# Altium schematic symbol library PassiveComponents.SchLib: 89 symbols
Pins are listed as number, name and electrical type; pins without a type are passive.

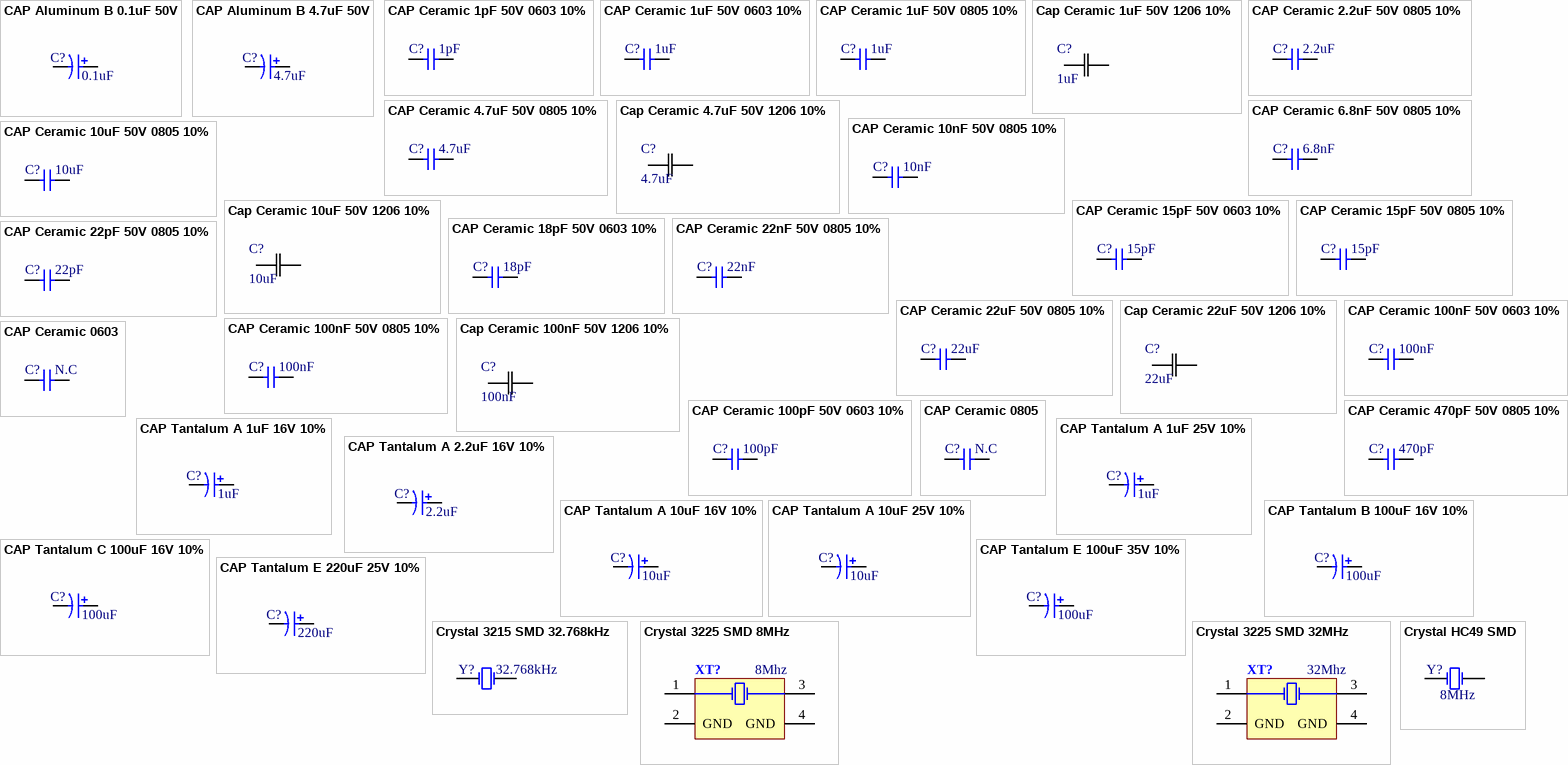
[diagram p0: symbols CAP Aluminum B 0.1uF 50V to Crystal HC49 SMD]

## CAP Aluminum B 0.1uF 50V
designator C?, comment 0.1uF
Aluminum Electrolytic Capacitor, Low Impedance,  0.1uF, 50 V, + / - 20%, -55 to 105 degC, Chip Type, 4 x 5.8 mm D x L
footprint CAP ALUMINUM SMD B (SMT Aluminum Electrolytic Capacitors, Dimensions 4x5.8(DxL))
pins: 1, 2

## CAP Aluminum B 4.7uF 50V
designator C?, comment 4.7uF
Aluminum Electrolytic Capacitor, Low Impedance,  4.7uF, 50 V, + / - 20%, -55 to 105 degC, Chip Type, 4 x 5.8 mm D x L
footprint CAP ALUMINUM SMD B (SMT Aluminum Electrolytic Capacitors, Dimensions 4x5.8(DxL))
pins: 1, 2

## CAP Ceramic 1pF 50V 0603 10%
designator C?, comment 1pF
Capacitor Ceramic 1pF 50V 0603 ±10%; Case-Metric: 2012; Max-Thickness: #NAN; Case-EIA: 0603; Rated-Voltage: 50V; Value: 1pF; Tolerance: ±10%; Technology: SMT; Supplier-ICDAYROI: https://icdayroi.com/tu-dien-100nf-50v-0805; Supplier-TME: http://tme.vn/Product.aspx?id=424#page=pro_info
footprint CAP CERAMIC SMD 0603-L (Chip Capacitor, 2-Leads, Body 1.6x0.8mm, IPC High Density)
pins: 1, 2

## CAP Ceramic 1uF 50V 0603 10%
designator C?, comment 1uF
Capacitor Ceramic 1uF 50V 0603 ±10%; Case-Metric: 2012; Max-Thickness: #NAN; Case-EIA: 0603; Rated-Voltage: 50V; Value: 1uF; Tolerance: ±10%; Technology: SMT; Supplier-ICDAYROI: https://icdayroi.com/tu-dien-100nf-50v-0805; Supplier-TME: http://tme.vn/Product.aspx?id=424#page=pro_info
footprint CAP CERAMIC SMD 0603-L (Chip Capacitor, 2-Leads, Body 1.6x0.8mm, IPC High Density)
pins: 1, 2

## CAP Ceramic 1uF 50V 0805 10%
designator C?, comment 1uF
Capacitor Ceramic 1uF 50V 0805 ±10%; Case-Metric: 2012; Max-Thickness: #NAN; Case-EIA: 0805; Rated-Voltage: 50V; Value: 1uF; Tolerance: ±10%; Technology: SMT; Supplier-ICDAYROI: https://icdayroi.com/tu-dien-100nf-50v-0805; Supplier-TME: http://tme.vn/Product.aspx?id=424#page=pro_info
footprint CAP CERAMIC SMD 0805
pins: 1, 2

## Cap Ceramic 1uF 50V 1206 10%
designator C?, comment 1uF
No Description Available; Mfr_Name: Yageo; Manufacturer_Part_Number: CC1206ZKY5V7BB226; Type: DEV; Copyright: Copyright (C) 2022 Ultra Librarian. All rights reserved.; RefDes: RefDes
footprint CAP_CC1206_YAG
pins: 1, 2

## CAP Ceramic 2.2uF 50V 0805 10%
designator C?, comment 2.2uF
Capacitor Ceramic 2.2uF 50V 0805 ±10%; Case-Metric: 2012; Max-Thickness: #NAN; Case-EIA: 0805; Rated-Voltage: 50V; Value: 2.2uF; Tolerance: ±10%; Technology: SMT; Supplier-ICDAYROI: https://icdayroi.com/tu-dien-100nf-50v-0805; Supplier-TME: http://tme.vn/Product.aspx?id=424#page=pro_info
footprint CAP CERAMIC SMD 0805
pins: 1, 2

## CAP Ceramic 4.7uF 50V 0805 10%
designator C?, comment 4.7uF
Capacitor Ceramic 4.7uF 50V 0805 ±10%; Case-Metric: 2012; Max-Thickness: #NAN; Value: 100nF; Case-EIA: 0805; Rated-Voltage: 50V; Tolerance: ±10%; Technology: SMT; Supplier-ICDAYROI: https://icdayroi.com/tu-dien-100nf-50v-0805; Supplier-TME: http://tme.vn/Product.aspx?id=424#page=pro_info
footprint CAP CERAMIC SMD 0805
pins: 1, 2

## Cap Ceramic 4.7uF 50V 1206 10%
designator C?, comment 4.7uF
No Description Available; Mfr_Name: Yageo; Manufacturer_Part_Number: CC1206ZKY5V7BB226; Type: DEV; Copyright: Copyright (C) 2022 Ultra Librarian. All rights reserved.; RefDes: RefDes
footprint CAP_CC1206_YAG
pins: 1, 2

## CAP Ceramic 6.8nF 50V 0805 10%
designator C?, comment 6.8nF
Capacitor Ceramic 6.8nF 50V 0805 ±10%; Case-Metric: 2012; Max-Thickness: #NAN; Case-EIA: 0805; Rated-Voltage: 50V; Value: 6.8nF; Tolerance: ±10%; Technology: SMT; Supplier-ICDAYROI: https://icdayroi.com/tu-dien-100nf-50v-0805; Supplier-TME: http://tme.vn/Product.aspx?id=424#page=pro_info
footprint CAP CERAMIC SMD 0805
pins: 1, 2

## CAP Ceramic 10nF 50V 0805 10%
designator C?, comment 10nF
Capacitor Ceramic 10nF 50V 0805 ±10%; Case-Metric: 2012; Max-Thickness: #NAN; Case-EIA: 0805; Rated-Voltage: 50V; Value: 10nF; Tolerance: ±10%; Technology: SMT; Supplier-ICDAYROI: https://icdayroi.com/tu-dien-100nf-50v-0805; Supplier-TME: http://tme.vn/Product.aspx?id=424#page=pro_info
footprint CAP CERAMIC SMD 0805
pins: 1, 2

## CAP Ceramic 10uF 50V 0805 10%
designator C?, comment 10uF
Capacitor Ceramic 10uF 50V 0805 ±10%; Case-Metric: 2012; Max-Thickness: #NAN; Case-EIA: 0805; Rated-Voltage: 50V; Value: 10uF; Tolerance: ±10%; Technology: SMT; Supplier-ICDAYROI: https://icdayroi.com/tu-dien-100nf-50v-0805; Supplier-TME: http://tme.vn/Product.aspx?id=424#page=pro_info
footprint CAP CERAMIC SMD 0805
pins: 1, 2

## Cap Ceramic 10uF 50V 1206 10%
designator C?, comment 10uF
No Description Available; Mfr_Name: Yageo; Manufacturer_Part_Number: CC1206ZKY5V7BB226; Type: DEV; Copyright: Copyright (C) 2022 Ultra Librarian. All rights reserved.; RefDes: RefDes
footprint CAP_CC1206_YAG
pins: 1, 2

## CAP Ceramic 15pF 50V 0603 10%
designator C?, comment 15pF
Capacitor Ceramic 15pF 50V 0603 ±10%; Case-Metric: 2012; Max-Thickness: #NAN; Case-EIA: 0603; Rated-Voltage: 50V; Value: 15pF; Tolerance: ±10%; Technology: SMT; Supplier-ICDAYROI: https://icdayroi.com/tu-dien-100nf-50v-0805; Supplier-TME: http://tme.vn/Product.aspx?id=424#page=pro_info
footprint CAP CERAMIC SMD 0603-L (Chip Capacitor, 2-Leads, Body 1.6x0.8mm, IPC High Density)
pins: 1, 2

## CAP Ceramic 15pF 50V 0805 10%
designator C?, comment 15pF
Capacitor Ceramic 15pF 50V 0805 ±10%; Case-Metric: 2012; Max-Thickness: #NAN; Value: 100nF; Case-EIA: 0805; Rated-Voltage: 50V; Tolerance: ±10%; Technology: SMT; Supplier-ICDAYROI: https://icdayroi.com/tu-dien-100nf-50v-0805; Supplier-TME: http://tme.vn/Product.aspx?id=424#page=pro_info
footprint CAP CERAMIC SMD 0805
pins: 1, 2

## CAP Ceramic 18pF 50V 0603 10%
designator C?, comment 18pF
Capacitor Ceramic 18pF 50V 0603 ±10%; Case-Metric: 2012; Max-Thickness: #NAN; Value: 100pF; Case-EIA: 0603; Rated-Voltage: 50V; Tolerance: ±10%; Technology: SMT; Supplier-ICDAYROI: https://icdayroi.com/tu-dien-100nf-50v-0805; Supplier-TME: http://tme.vn/Product.aspx?id=424#page=pro_info
footprint CAP CERAMIC SMD 0603-L (Chip Capacitor, 2-Leads, Body 1.6x0.8mm, IPC High Density)
pins: 1, 2

## CAP Ceramic 22nF 50V 0805 10%
designator C?, comment 22nF
Capacitor Ceramic 22nF 50V 0805 ±10%; Case-Metric: 2012; Max-Thickness: #NAN; Case-EIA: 0805; Rated-Voltage: 50V; Value: 22nF; Tolerance: ±10%; Technology: SMT; Supplier-ICDAYROI: https://icdayroi.com/tu-dien-100nf-50v-0805; Supplier-TME: http://tme.vn/Product.aspx?id=424#page=pro_info
footprint CAP CERAMIC SMD 0805
pins: 1, 2

## CAP Ceramic 22pF 50V 0805 10%
designator C?, comment 22pF
Capacitor Ceramic 22pF 50V 0805 ±10%; Case-Metric: 2012; Max-Thickness: #NAN; Case-EIA: 0805; Rated-Voltage: 50V; Value: 22pF; Tolerance: ±10%; Technology: SMT; Supplier-ICDAYROI: https://icdayroi.com/tu-dien-100nf-50v-0805; Supplier-TME: http://tme.vn/Product.aspx?id=424#page=pro_info
footprint CAP CERAMIC SMD 0805
pins: 1, 2

## CAP Ceramic 22uF 50V 0805 10%
designator C?, comment 22uF
Capacitor Ceramic 10uF 50V 0805 ±10%; Case-Metric: 2012; Max-Thickness: #NAN; Case-EIA: 0805; Rated-Voltage: 50V; Value: 10uF; Tolerance: ±10%; Technology: SMT; Supplier-ICDAYROI: https://icdayroi.com/tu-dien-100nf-50v-0805; Supplier-TME: http://tme.vn/Product.aspx?id=424#page=pro_info
footprint CAP CERAMIC SMD 0805
pins: 1, 2

## Cap Ceramic 22uF 50V 1206 10%
designator C?, comment 22uF
No Description Available; Mfr_Name: Yageo; Manufacturer_Part_Number: CC1206ZKY5V7BB226; Type: DEV; Copyright: Copyright (C) 2022 Ultra Librarian. All rights reserved.; RefDes: RefDes
footprint CAP_CC1206_YAG
pins: 1, 2

## CAP Ceramic 100nF 50V 0603 10%
designator C?, comment 100nF
Capacitor Ceramic 100nF 50V 0603 ±10%; Case-Metric: 2012; Max-Thickness: #NAN; Case-EIA: 0603; Rated-Voltage: 50V; Value: 100nF; Tolerance: ±10%; Technology: SMT; Supplier-ICDAYROI: https://icdayroi.com/tu-dien-100nf-50v-0805; Supplier-TME: http://tme.vn/Product.aspx?id=424#page=pro_info
footprint CAP CERAMIC SMD 0603-L (Chip Capacitor, 2-Leads, Body 1.6x0.8mm, IPC High Density)
pins: 1, 2

## CAP Ceramic 100nF 50V 0805 10%
designator C?, comment 100nF
Capacitor Ceramic 100nF 50V 0805 ±10%; Case-Metric: 2012; Max-Thickness: #NAN; Case-EIA: 0805; Rated-Voltage: 50V; Value: 100nF; Tolerance: ±10%; Technology: SMT; Supplier-ICDAYROI: https://icdayroi.com/tu-dien-100nf-50v-0805; Supplier-TME: http://tme.vn/Product.aspx?id=424#page=pro_info
footprint CAP CERAMIC SMD 0805
pins: 1, 2

## Cap Ceramic 100nF 50V 1206 10%
designator C?, comment 100nF
No Description Available; Mfr_Name: Yageo; Manufacturer_Part_Number: CC1206ZKY5V7BB226; Type: DEV; Copyright: Copyright (C) 2022 Ultra Librarian. All rights reserved.; RefDes: RefDes
footprint CAP_CC1206_YAG
pins: 1, 2

## CAP Ceramic 100pF 50V 0603 10%
designator C?, comment 100pF
Capacitor Ceramic 100pF 50V 0603 ±10%; Case-Metric: 2012; Max-Thickness: #NAN; Case-EIA: 0603; Rated-Voltage: 50V; Value: 100pF; Tolerance: ±10%; Technology: SMT; Supplier-ICDAYROI: https://icdayroi.com/tu-dien-100nf-50v-0805; Supplier-TME: http://tme.vn/Product.aspx?id=424#page=pro_info
footprint CAP CERAMIC SMD 0603-L (Chip Capacitor, 2-Leads, Body 1.6x0.8mm, IPC High Density)
pins: 1, 2

## CAP Ceramic 470pF 50V 0805 10%
designator C?, comment 470pF
Capacitor Ceramic 470pF 50V 0805 10%; Case-Metric: 2012; Max-Thickness: #NAN; Value: 100nF; Case-EIA: 0805; Rated-Voltage: 50V; Tolerance: ±10%; Technology: SMT; Supplier-ICDAYROI: https://icdayroi.com/tu-dien-100nf-50v-0805; Supplier-TME: http://tme.vn/Product.aspx?id=424#page=pro_info
footprint CAP CERAMIC SMD 0805
pins: 1, 2

## CAP Ceramic 0603
designator C?, comment N.C
Capacitor Ceramic 100nF 50V 0603 ±10%; Case-Metric: 2012; Max-Thickness: #NAN; Case-EIA: 0603; Rated-Voltage: 50V; Value: 100nF; Tolerance: ±10%; Technology: SMT; Supplier-ICDAYROI: https://icdayroi.com/tu-dien-100nf-50v-0805; Supplier-TME: http://tme.vn/Product.aspx?id=424#page=pro_info
footprint CAP CERAMIC SMD 0603-L (Chip Capacitor, 2-Leads, Body 1.6x0.8mm, IPC High Density)
pins: 1, 2

## CAP Ceramic 0805
designator C?, comment N.C
Capacitor Ceramic 100nF 50V 0805 ±10%; Case-Metric: 2012; Max-Thickness: #NAN; Case-EIA: 0805; Rated-Voltage: 50V; Value: 100nF; Tolerance: ±10%; Technology: SMT; Supplier-ICDAYROI: https://icdayroi.com/tu-dien-100nf-50v-0805; Supplier-TME: http://tme.vn/Product.aspx?id=424#page=pro_info
footprint CAP CERAMIC SMD 0805
pins: 1, 2

## CAP Tantalum A 1uF 16V 10%
designator C?, comment 1uF
Standard Tantalum, 1 uF ,  ±10%, 16V, -55 to 125 degC, 2-Pin SMD; Supplier-TME: http://tme.vn/Product.aspx?id=1423#page=pro_info
footprint CAP TANTALUM SMD A
pins: 1, 2

## CAP Tantalum A 1uF 25V 10%
designator C?, comment 1uF
Standard Tantalum, 1 uF ,  ±10%, 25V, -55 to 125 degC, 2-Pin SMD; Supplier-ICDAYROI: *https://icdayroi.com/tu-tantalum-1uf-25v-smd3216
footprint CAP TANTALUM SMD A
pins: 1, 2

## CAP Tantalum A 2.2uF 16V 10%
designator C?, comment 2.2uF
Standard Tantalum, 2.2uF ,  ±10%, 16V, -55 to 125 degC, 2-Pin SMD; Supllier-ICDAYROi: https://icdayroi.com/tu-tantalum-2-2uf-16v-smd3216
footprint CAP TANTALUM SMD A
pins: 1, 2

## CAP Tantalum A 10uF 16V 10%
designator C?, comment 10uF
Standard Tantalum, 10uF ,  ±10%, 16V, -55 to 125 degC, 2-Pin SMD; Supllier-ICDAYROi: https://icdayroi.com/tu-tantalum-10uf-16v-size-1206-10; Supplier-TME: *http://tme.vn/Product.aspx?id=305#page=pro_info
footprint CAP TANTALUM SMD A
pins: 1, 2

## CAP Tantalum A 10uF 25V 10%
designator C?, comment 10uF
Standard Tantalum, 10 uF ,  ±10%, 25V, -55 to 125 degC, 2-Pin SMD; Supllier-ICDAYROi: https://icdayroi.com/tu-tantalum-10uf-25v-smd3216-1206
footprint CAP TANTALUM SMD A
pins: 1, 2

## CAP Tantalum B 100uF 16V 10%
designator C?, comment 100uF
Standard Tantalum, 100 uF ,  ±10%, 16V, -55 to 125 degC, 2-Pin SMD; Supplier-ICDAYROI: https://icdayroi.com/tu-tantalum-100uf-16v-smd3528
footprint CAP TANTALUM SMD B
pins: 1, 2

## CAP Tantalum C 100uF 16V 10%
designator C?, comment 100uF
Standard Tantalum, 100uF ,  ±10%, 16V, -55 to 125 degC, 2-Pin SMD; Supllier-ICDAYROi: https://icdayroi.com/tu-tantalum-100uf-16v-smd6032
footprint CAP TANTALUM SMD C
pins: 1, 2

## CAP Tantalum E 100uF 35V 10%
designator C?, comment 100uF
Standard Tantalum, 100uF ,  ±10%, 35V, -55 to 125 degC, 2-Pin SMD; Supllier-ICDAYROi: https://icdayroi.com/tu-tantalum-100uf-35v-smd7343
footprint CAP TANTALUM SMD E
pins: 1, 2

## CAP Tantalum E 220uF 25V 10%
designator C?, comment 220uF
Standard Tantalum, 220uF ,  ±10%, 25V, -55 to 125 degC, 2-Pin SMD; Supllier-ICDAYROi: https://icdayroi.com/tu-tantalum-220uf-25v-smd7343
footprint CAP TANTALUM SMD E
pins: 1, 2

## Crystal 3215 SMD 32.768kHz
designator Y?, comment 32.768kHz
footprint CRYSTAL 3215 SMD (XTAL SMD 3.2 x 1.5 mm)
pins: 1 OSC1, 2 OSC2

## Crystal 3225 SMD 8MHz
designator XT?, comment 8Mhz
SMD Seam Sealing Crystal, 8 MHz, +/- 30 ppm, 18 pF, -20 to 70 degC, 4-Pin SMD, RoHS, Tape and Reel; Manufacturer: TXC; Other Names: 7M25000MAAJT / 887-1132-2; Frequency Tolerance: ±30ppm; Catalog Drawings: 7MSeriesTop7MSeriesBottom7MSeriesSide7MSeriesCircuit; Online Catalog: 7MSeries; Operating Mode: Fundamental; ESR (Equivalent Series Resistance): 60Ohm; EDA / CAD Models: DownloadfromAcceleratedDesigns; Frequency: 25MHz; Load Capacitance: 18pF; Operating Temperature: -20°C~70°C; Size / Dimension: 0.126"Lx0.098"W(3.20mmx2.50mm); Frequency Stability: ±30ppm; Datasheet URL: http://www.txccrystal.com/images/pdf/7m.pdf; Category: CrystalsandOscillators; Series: 7M; Package Description: 4-Pin Surface Mount Device, Body 3.2 x 2.5 mm; Packaging: Tape&Reel(TR); Mounting Technology: SurfaceMount; Standard Package: 3,000; Family: Crystals; Package / Case: 4-SMD,NoLead(DFN,LCC); Height: 0.031"(0.80mm); Type: MHzCrystal; Manufacturer URL: http://www.txccorp.com/; Datasheet Version: 01/2014; Mounting Type: SurfaceMount; Package Reference: 7M-4
footprint CRYSTAL 3225 SMD 4P (SMD, 4-Leads, Body 3.2x2.5mm)
pins: 1 X1, 2 GND (power), 3 X2, 4 GND (power)

## Crystal 3225 SMD 32MHz
designator XT?, comment 32Mhz
SMD Seam Sealing Crystal, 32 MHz, +/- 30 ppm, 18 pF, -20 to 70 degC, 4-Pin SMD, RoHS, Tape and Reel; Manufacturer: TXC; Other Names: 7M25000MAAJT / 887-1132-2; Frequency Tolerance: ±30ppm; Catalog Drawings: 7MSeriesTop7MSeriesBottom7MSeriesSide7MSeriesCircuit; Online Catalog: 7MSeries; Operating Mode: Fundamental; ESR (Equivalent Series Resistance): 60Ohm; EDA / CAD Models: DownloadfromAcceleratedDesigns; Load Capacitance: 18pF; Operating Temperature: -20°C~70°C; Size / Dimension: 0.126"Lx0.098"W(3.20mmx2.50mm); Frequency Stability: ±30ppm; Datasheet URL: http://www.txccrystal.com/images/pdf/7m.pdf; Category: CrystalsandOscillators; Series: 7M; Package Description: 4-Pin Surface Mount Device, Body 3.2 x 2.5 mm; Packaging: Tape&Reel(TR); Mounting Technology: SurfaceMount; Frequency: 32MHz; Standard Package: 3,000; Family: Crystals; Package / Case: 4-SMD,NoLead(DFN,LCC); Height: 0.031"(0.80mm); Type: MHzCrystal; Manufacturer URL: http://www.txccorp.com/; Datasheet Version: 01/2014; Mounting Type: SurfaceMount; Package Reference: 7M-4
footprint CRYSTAL 3225 SMD 4P (SMD, 4-Leads, Body 3.2x2.5mm)
pins: 1 X1, 2 GND (power), 3 X2, 4 GND (power)

## Crystal HC49 SMD
designator Y?, comment 8MHz
footprint CRYSTAL HC49 SMD
pins: 1 OSC1, 2 OSC2

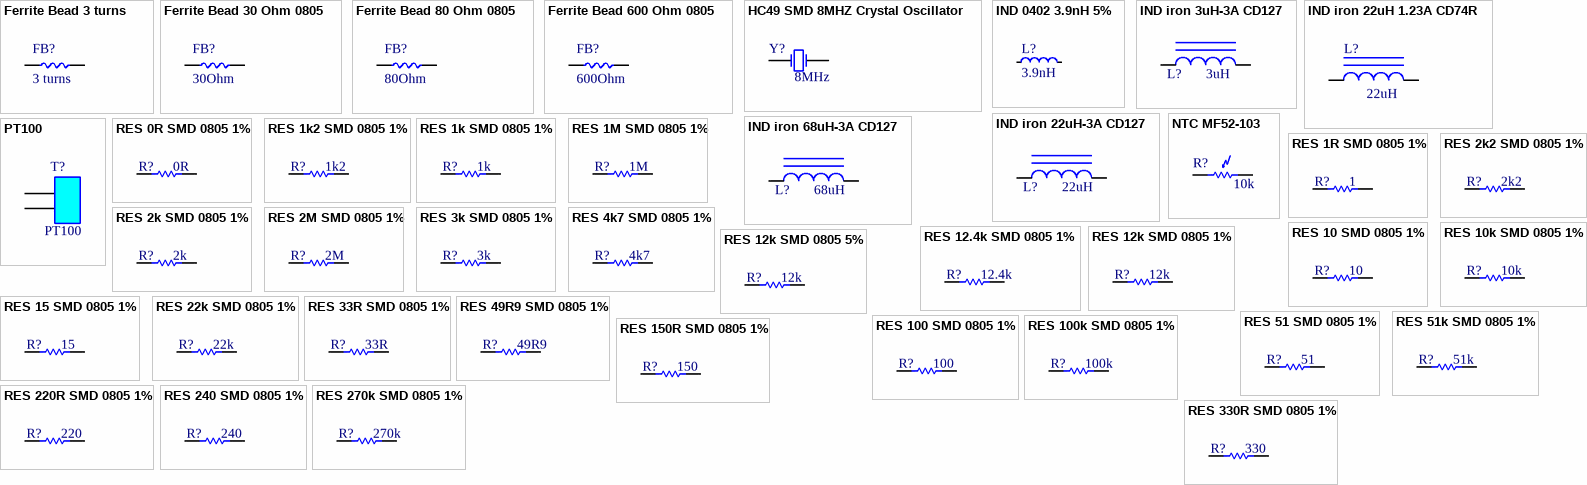
[diagram p1: symbols Ferrite Bead 3 turns to RES 330R SMD 0805 1%]

## Ferrite Bead 3 turns
designator FB?, comment 3 turns
footprint Ferrite bead 6x10
pins: 1, 2

## Ferrite Bead 30 Ohm 0805
designator FB?, comment 30Ohm
30Ohm at 100MHz
footprint FERIT BEAD 0805
pins: 1, 2

## Ferrite Bead 80 Ohm 0805
designator FB?, comment 80Ohm
80Ohm at 100MHz
footprint FERIT BEAD 0805
pins: 1, 2

## Ferrite Bead 600 Ohm 0805
designator FB?, comment 600Ohm
600Ohm at 100MHz
footprint FERIT BEAD 0805
pins: 1, 2

## HC49 SMD 8MHZ Crystal Oscillator
designator Y?, comment 8MHz
Crystal Oscillator
footprint HC49-SMD
pins: 1 OSC1, 2 OSC2

## IND 0402 3.9nH 5%
designator L?, comment 3.9nH
High frequency chip inductor ±5%; Part Number: L0402-3n9; Manufacturer: Murata; Manufacturer Part Number: LQP15MN3N9B02D; Artikkelnr Noca: 33029151; Artikkelnr Simpro: N.A.; Datasheet: http://search.murata.co.jp/Ceramy/image/img/PDF/ENG/L0075S0084LQP15M.pdf; LatestRevisionDate: 2012-09-19; Pin Count: 2; Publisher: Nordic Semiconductor; Published: 2009-05-08; Value: 3.9nH; Note: High frequency chip inductor ±5%; Supplier: Digi-Key; Supplier part number: 490-1131-1-ND; 2nd source Supplier: *; 2nd source part number: *; Footprint Doc: 0402
footprint IND CHIP SMD 0402-L (Chip Inductor, 2-Leads, Body 1.0x0.5mm, IPC High Density)
pins: 1, 2

## IND iron 3uH-3A CD127
designator L?, comment 3uH
Magnetic-Core Inductor; Value: 3uH
footprint INDUCTOR SMD 1280 12x12x8mm (Inductor 1280 Body 12x12x8mm, Pad 5.4x2.9mm)
pins: 1, 2

## IND iron 22uH 1.23A CD74R
designator L?, comment 22uH
Magnetic-Core Inductor; Value: 22uH
footprint INDUCTOR SMD 7342 7.3X7.3X4.2mm (Inductor 7342 Body 7.3x7.3X4.2mm, Pad 2.8x2.1mm)
pins: 1, 2

## IND iron 22uH-3A CD127
designator L?, comment 22uH
Magnetic-Core Inductor; Value: 22uH
footprint INDUCTOR SMD 1280 12x12x8mm (Inductor 1280 Body 12x12x8mm, Pad 5.4x2.9mm)
pins: 1, 2

## IND iron 68uH-3A CD127
designator L?, comment 68uH
Magnetic-Core Inductor; Value: 68uH
footprint INDUCTOR SMD 1280 12x12x8mm (Inductor 1280 Body 12x12x8mm, Pad 5.4x2.9mm)
pins: 1, 2

## NTC MF52-103
designator R?, comment 10k
footprint NTC-10k
pins: 1, 2

## PT100
designator T?
footprint NB-PTCO-005 (PT100)
pins: 1, 2

## RES 0R SMD 0805 1%
designator R?, comment 0R
Resistor 0R 1/8W 1% 0805 (2012 Metric) SMD; Case-EIA: 0805; Case-Metric: 2012; Power: 1/8W (0.125W); Value: 0R; Tolerance: ±1%; Supplier-ICDAYROI: https://icdayroi.com/dien-tro-1k-0805-1-goi-50-con; Technology: SMT; Supplier-TME: http://tme.vn/Product.aspx?id=695#page=pro_info
footprint RES SMD 0805
pins: 1, 2

## RES 1k2 SMD 0805 1%
designator R?, comment 1k2
Resistor 1k2 1/8W 1% 0805 (2012 Metric) SMD; Case-EIA: 0805; Case-Metric: 2012; Value: 1k; Power: 1/8W (0.125W); Tolerance: ±1%; Supplier-ICDAYROI: https://icdayroi.com/dien-tro-1k-0805-1-goi-50-con; Technology: SMT; Supplier-TME: http://tme.vn/Product.aspx?id=695#page=pro_info
footprint RES SMD 0805
pins: 1, 2

## RES 1k SMD 0805 1%
designator R?, comment 1k
Resistor 1k 1/8W 1% 0805 (2012 Metric) SMD; Case-EIA: 0805; Case-Metric: 2012; Power: 1/8W (0.125W); Value: 1k; Tolerance: ±1%; Supplier-ICDAYROI: https://icdayroi.com/dien-tro-1k-0805-1-goi-50-con; Technology: SMT; Supplier-TME: http://tme.vn/Product.aspx?id=695#page=pro_info
footprint RES SMD 0805
pins: 1, 2

## RES 1M SMD 0805 1%
designator R?, comment 1M
Resistor 1M 1/8W 1% 0805 (2012 Metric) SMD; Case-EIA: 0805; Case-Metric: 2012; Value: 1k; Power: 1/8W (0.125W); Tolerance: ±1%; Supplier-ICDAYROI: https://icdayroi.com/dien-tro-1k-0805-1-goi-50-con; Technology: SMT; Supplier-TME: http://tme.vn/Product.aspx?id=695#page=pro_info
footprint RES SMD 0805
pins: 1, 2

## RES 1R SMD 0805 1%
designator R?, comment 1
Resistor 1R 1/8W 1% 0805 (2012 Metric) SMD; Case-EIA: 0805; Case-Metric: 2012; Power: 1/8W (0.125W); Value: 1R; Tolerance: ±1%; Supplier-ICDAYROI: https://icdayroi.com/dien-tro-1k-0805-1-goi-50-con; Technology: SMT; Supplier-TME: http://tme.vn/Product.aspx?id=695#page=pro_info
footprint RES SMD 0805
pins: 1, 2

## RES 2k2 SMD 0805 1%
designator R?, comment 2k2
Resistor 2k2 1/8W 1% 0805 (2012 Metric) SMD; Case-EIA: 0805; Case-Metric: 2012; Power: 1/8W (0.125W); Value: 2k2; Tolerance: ±1%; Supplier-ICDAYROI: https://icdayroi.com/dien-tro-10k-0805-1-goi-50-con; Technology: SMT
footprint RES SMD 0805
pins: 1, 2

## RES 2k SMD 0805 1%
designator R?, comment 2k
Resistor 2k 1/8W 1% 0805 (2012 Metric) SMD; Case-EIA: 0805; Case-Metric: 2012; Power: 1/8W (0.125W); Value: 2k; Tolerance: ±1%; Supplier-ICDAYROI: https://icdayroi.com/dien-tro-10k-0805-1-goi-50-con; Technology: SMT
footprint RES SMD 0805
pins: 1, 2

## RES 2M SMD 0805 1%
designator R?, comment 2M
Resistor 2M 1/8W 1% 0805 (2012 Metric) SMD; Case-EIA: 0805; Case-Metric: 2012; Power: 1/8W (0.125W); Value: 2M; Tolerance: ±1%; Supplier-ICDAYROI: https://icdayroi.com/dien-tro-10k-0805-1-goi-50-con; Technology: SMT
footprint RES SMD 0805
pins: 1, 2

## RES 3k SMD 0805 1%
designator R?, comment 3k
Resistor 3k 1/8W 1% 0805 (2012 Metric) SMD; Case-EIA: 0805; Case-Metric: 2012; Value: 1k; Power: 1/8W (0.125W); Tolerance: ±1%; Supplier-ICDAYROI: https://icdayroi.com/dien-tro-10k-0805-1-goi-50-con; Technology: SMT
footprint RES SMD 0805
pins: 1, 2

## RES 4k7 SMD 0805 1%
designator R?, comment 4k7
Resistor 4k7 1/8W 1% 0805 (2012 Metric) SMD; Case-EIA: 0805; Case-Metric: 2012; Power: 1/8W (0.125W); Value: 4k7; Tolerance: ±1%; Supplier-ICDAYROI: https://icdayroi.com/dien-tro-4k7-0805-1-goi-50-con; Technology: SMT; Supplier-TME: http://tme.vn/Product.aspx?id=705#page=pro_info
footprint RES SMD 0805
pins: 1, 2

## RES 10 SMD 0805 1%
designator R?, comment 10
Resistor 10 1/8W 1% 0805 (2012 Metric) SMD; Case-EIA: 0805; Case-Metric: 2012; Power: 1/8W (0.125W); Value: 10; Tolerance: ±1%; Supplier-ICDAYROI: https://icdayroi.com/dien-tro-10k-0805-1-goi-50-con; Technology: SMT
footprint RES SMD 0805
pins: 1, 2

## RES 10k SMD 0805 1%
designator R?, comment 10k
Resistor 10k 1/8W 1% 0805 (2012 Metric) SMD; Case-EIA: 0805; Case-Metric: 2012; Power: 1/8W (0.125W); Value: 10k; Tolerance: ±1%; Supplier-ICDAYROI: https://icdayroi.com/dien-tro-10k-0805-1-goi-50-con; Technology: SMT
footprint RES SMD 0805
pins: 1, 2

## RES 12.4k SMD 0805 1%
designator R?, comment 12.4k
Resistor 12.4k 1/8W 1% 0805 (2012 Metric) SMD; Case-EIA: 0805; Case-Metric: 2012; Value: 12k4; Power: 1/8W (0.125W); Tolerance: ±1%; Supplier-ICDAYROI: *; Technology: SMT; Supplier-TME: *
footprint RES SMD 0805
pins: 1, 2

## RES 12k SMD 0805 1%
designator R?, comment 12k
Resistor 12k 1/8W 1% 0805 (2012 Metric) SMD; Case-EIA: 0805; Case-Metric: 2012; Power: 1/8W (0.125W); Value: 12k; Tolerance: ±1%; Supplier-ICDAYROI: *; Technology: SMT; Supplier-TME: *
footprint RES SMD 0805
pins: 1, 2

## RES 12k SMD 0805 5%
designator R?, comment 12k
Resistor 12k 1/8W 5% 0805 (2012 Metric) SMD; Case-EIA: 0805; Case-Metric: 2012; Power: 1/8W (0.125W); Value: 12k; Tolerance: ±5%; Supplier-ICDAYROI: *; Technology: SMT; Supplier-TME: *
footprint RES SMD 0805
pins: 1, 2

## RES 15 SMD 0805 1%
designator R?, comment 15
Resistor 15 1/8W 1% 0805 (2012 Metric) SMD; Case-EIA: 0805; Case-Metric: 2012; Power: 1/8W (0.125W); Value: 15; Tolerance: ±1%; Supplier-ICDAYROI: https://icdayroi.com/dien-tro-10k-0805-1-goi-50-con; Technology: SMT
footprint RES SMD 0805
pins: 1, 2

## RES 22k SMD 0805 1%
designator R?, comment 22k
Resistor 22k 1/8W 1% 0805 (2012 Metric) SMD; Case-EIA: 0805; Case-Metric: 2012; Power: 1/8W (0.125W); Value: 22k; Tolerance: ±1%; Supplier-ICDAYROI: https://icdayroi.com/dien-tro-10k-0805-1-goi-50-con; Technology: SMT
footprint RES SMD 0805
pins: 1, 2

## RES 33R SMD 0805 1%
designator R?, comment 33R
Resistor 33R 1/8W 1% 0805 (2012 Metric) SMD; Case-EIA: 0805; Case-Metric: 2012; Power: 1/8W (0.125W); Value: 33R; Tolerance: ±1%; Supplier-ICDAYROI: https://icdayroi.com/dien-tro-1k-0805-1-goi-50-con; Technology: SMT; Supplier-TME: http://tme.vn/Product.aspx?id=695#page=pro_info
footprint RES SMD 0805
pins: 1, 2

## RES 49R9 SMD 0805 1%
designator R?, comment 49R9
Resistor 49R9 1/8W 1% 0805 (2012 Metric) SMD; Case-EIA: 0805; Case-Metric: 2012; Value: 49.9R; Power: 1/8W (0.125W); Tolerance: ±1%; Supplier-ICDAYROI: https://icdayroi.com/dien-tro-1k-0805-1-goi-50-con; Technology: SMT; Supplier-TME: http://tme.vn/Product.aspx?id=695#page=pro_info
footprint RES SMD 0805
pins: 1, 2

## RES 51 SMD 0805 1%
designator R?, comment 51
Resistor 51 1/8W 1% 0805 (2012 Metric) SMD; Case-EIA: 0805; Case-Metric: 2012; Value: 10k; Power: 1/8W (0.125W); Tolerance: ±1%; Supplier-ICDAYROI: https://icdayroi.com/dien-tro-10k-0805-1-goi-50-con; Technology: SMT
footprint RES SMD 0805
pins: 1, 2

## RES 51k SMD 0805 1%
designator R?, comment 51k
Resistor 51k 1/8W 1% 0805 (2012 Metric) SMD; Case-EIA: 0805; Case-Metric: 2012; Power: 1/8W (0.125W); Value: 51k; Tolerance: ±1%; Supplier-ICDAYROI: https://icdayroi.com/dien-tro-10k-0805-1-goi-50-con; Technology: SMT
footprint RES SMD 0805
pins: 1, 2

## RES 100 SMD 0805 1%
designator R?, comment 100
Resistor 100 1/8W 1% 0805 (2012 Metric) SMD; Case-EIA: 0805; Case-Metric: 2012; Power: 1/8W (0.125W); Value: 100; Tolerance: ±1%; Supplier-ICDAYROI: https://icdayroi.com/dien-tro-10k-0805-1-goi-50-con; Technology: SMT
footprint RES SMD 0805
pins: 1, 2

## RES 100k SMD 0805 1%
designator R?, comment 100k
Resistor 100k 1/8W 1% 0805 (2012 Metric) SMD; Case-EIA: 0805; Case-Metric: 2012; Power: 1/8W (0.125W); Value: 100k; Tolerance: ±1%; Supplier-ICDAYROI: https://icdayroi.com/dien-tro-10k-0805-1-goi-50-con; Technology: SMT
footprint RES SMD 0805
pins: 1, 2

## RES 150R SMD 0805 1%
designator R?, comment 150
Resistor 150 1/8W 1% 0805 (2012 Metric) SMD; Case-EIA: 0805; Case-Metric: 2012; Value: 150R; Power: 1/8W (0.125W); Tolerance: ±1%; Supplier-ICDAYROI: https://icdayroi.com/dien-tro-1k-0805-1-goi-50-con; Technology: SMT; Supplier-TME: http://tme.vn/Product.aspx?id=695#page=pro_info
footprint RES SMD 0805
pins: 1, 2

## RES 220R SMD 0805 1%
designator R?, comment 220
Resistor 220 1/8W 1% 0805 (2012 Metric) SMD; Case-EIA: 0805; Case-Metric: 2012; Value: 150R; Power: 1/8W (0.125W); Tolerance: ±1%; Supplier-ICDAYROI: https://icdayroi.com/dien-tro-1k-0805-1-goi-50-con; Technology: SMT; Supplier-TME: http://tme.vn/Product.aspx?id=695#page=pro_info
footprint RES SMD 0805
pins: 1, 2

## RES 240 SMD 0805 1%
designator R?, comment 240
Resistor 240 1/8W 1% 0805 (2012 Metric) SMD; Case-EIA: 0805; Case-Metric: 2012; Power: 1/8W (0.125W); Value: 240; Tolerance: ±1%; Supplier-ICDAYROI: https://icdayroi.com/dien-tro-10k-0805-1-goi-50-con; Technology: SMT
footprint RES SMD 0805
pins: 1, 2

## RES 270k SMD 0805 1%
designator R?, comment 270k
Resistor 270k 1/8W 1% 0805 (2012 Metric) SMD; Case-EIA: 0805; Case-Metric: 2012; Power: 1/8W (0.125W); Value: 270k; Tolerance: ±1%; Supplier-ICDAYROI: https://icdayroi.com/dien-tro-10k-0805-1-goi-50-con; Technology: SMT
footprint RES SMD 0805
pins: 1, 2

## RES 330R SMD 0805 1%
designator R?, comment 330
Resistor 330R 1/8W 1% 0805 (2012 Metric) SMD; Case-EIA: 0805; Case-Metric: 2012; Power: 1/8W (0.125W); Value: 330R; Tolerance: ±1%; Supplier-ICDAYROI: https://icdayroi.com/dien-tro-1k-0805-1-goi-50-con; Technology: SMT; Supplier-TME: http://tme.vn/Product.aspx?id=695#page=pro_info
footprint RES SMD 0805
pins: 1, 2

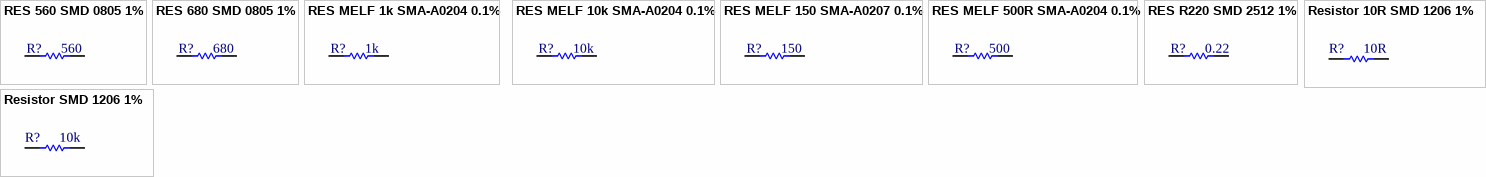
[diagram p2: symbols RES 560 SMD 0805 1% to Resistor SMD 1206 1%]

## RES 560 SMD 0805 1%
designator R?, comment 560
Resistor 560 1/8W 1% 0805 (2012 Metric) SMD; Case-EIA: 0805; Case-Metric: 2012; Value: 240; Power: 1/8W (0.125W); Tolerance: ±1%; Supplier-ICDAYROI: https://icdayroi.com/dien-tro-10k-0805-1-goi-50-con; Technology: SMT
footprint RES SMD 0805
pins: 1, 2

## RES 680 SMD 0805 1%
designator R?, comment 680
Resistor 680 1/8W 1% 0805 (2012 Metric) SMD; Case-EIA: 0805; Case-Metric: 2012; Value: 10k; Power: 1/8W (0.125W); Tolerance: ±1%; Supplier-ICDAYROI: https://icdayroi.com/dien-tro-10k-0805-1-goi-50-con; Technology: SMT
footprint RES SMD 0805
pins: 1, 2

## RES MELF 1k SMA-A0204 0.1%
designator R?, comment 1k
MELF Resistor 1k 0.4W 0.1% SMA-A0204; Case-EIA: 0805; Case-Metric: 2012; Tolerance: ±1%; Power: 1/8W (0.125W); Value: 1k; Supplier-ICDAYROI: https://icdayroi.com/dien-tro-10k-0805-1-goi-50-con; Technology: SMT
footprint SMA-A0204
pins: 1, 2

## RES MELF 10k SMA-A0204 0.1%
designator R?, comment 10k
MELF Resistor 10k 0.4W 0.1% SMA-A0204; Case-EIA: 0805; Case-Metric: 2012; Tolerance: ±1%; Power: 1/8W (0.125W); Value: 10k; Supplier-ICDAYROI: https://icdayroi.com/dien-tro-10k-0805-1-goi-50-con; Technology: SMT
footprint SMA-A0204
pins: 1, 2

## RES MELF 150 SMA-A0207 0.1%
designator R?, comment 150
MELF Resistor 150 1/2W 0.1% SMA-A0207; Case-EIA: 0805; Case-Metric: 2012; Value: 10k; Tolerance: ±1%; Power: 1/8W (0.125W); Supplier-ICDAYROI: https://icdayroi.com/dien-tro-10k-0805-1-goi-50-con; Technology: SMT
footprint SMA-A0207
pins: 1, 2

## RES MELF 500R SMA-A0204 0.1%
designator R?, comment 500
MELF Resistor 500 Ohm 0.4W 0.1% SMA-A0204; Case-EIA: 0805; Case-Metric: 2012; Value: 10k; Tolerance: ±1%; Power: 1/8W (0.125W); Supplier-ICDAYROI: https://icdayroi.com/dien-tro-10k-0805-1-goi-50-con; Technology: SMT
footprint SMA-A0204
pins: 1, 2

## RES R220 SMD 2512 1%
designator R?, comment 0.22
Resistor R220 1W 1% 2512 (630x330 Metric) SMD; Case-EIA: 0805; Case-Metric: 2012; Value: 0.22R; Power: 1/8W (0.125W); Tolerance: ±1%; Supplier-ICDAYROI: https://icdayroi.com/dien-tro-1k-0805-1-goi-50-con; Technology: SMT; Supplier-TME: http://tme.vn/Product.aspx?id=695#page=pro_info
footprint RES SMD 2512
pins: 1, 2

## Resistor 10R SMD 1206 1%
designator R?, comment 10R
Resistor 10R smd 1206 1/4W 1%; Published: 8-Jun-2000; LatestRevisionDate: 17-Jul-2002; LatestRevisionNote: Re-released for DXP Platform.; PackageReference: AXIAL-0.3; Publisher: Altium Limited; Value: 10R
footprint RES SMD 1206
pins: 1, 2

## Resistor SMD 1206 1%
designator R?, comment 10k
Resistor smd 1206 1/4W 1%; Published: 8-Jun-2000; LatestRevisionDate: 17-Jul-2002; LatestRevisionNote: Re-released for DXP Platform.; PackageReference: AXIAL-0.3; Publisher: Altium Limited
footprint RES-SMD-1206
pins: 1, 2